# Altium integrated library NSC LDO.IntLib: 1229 symbols (part 24 of 28)
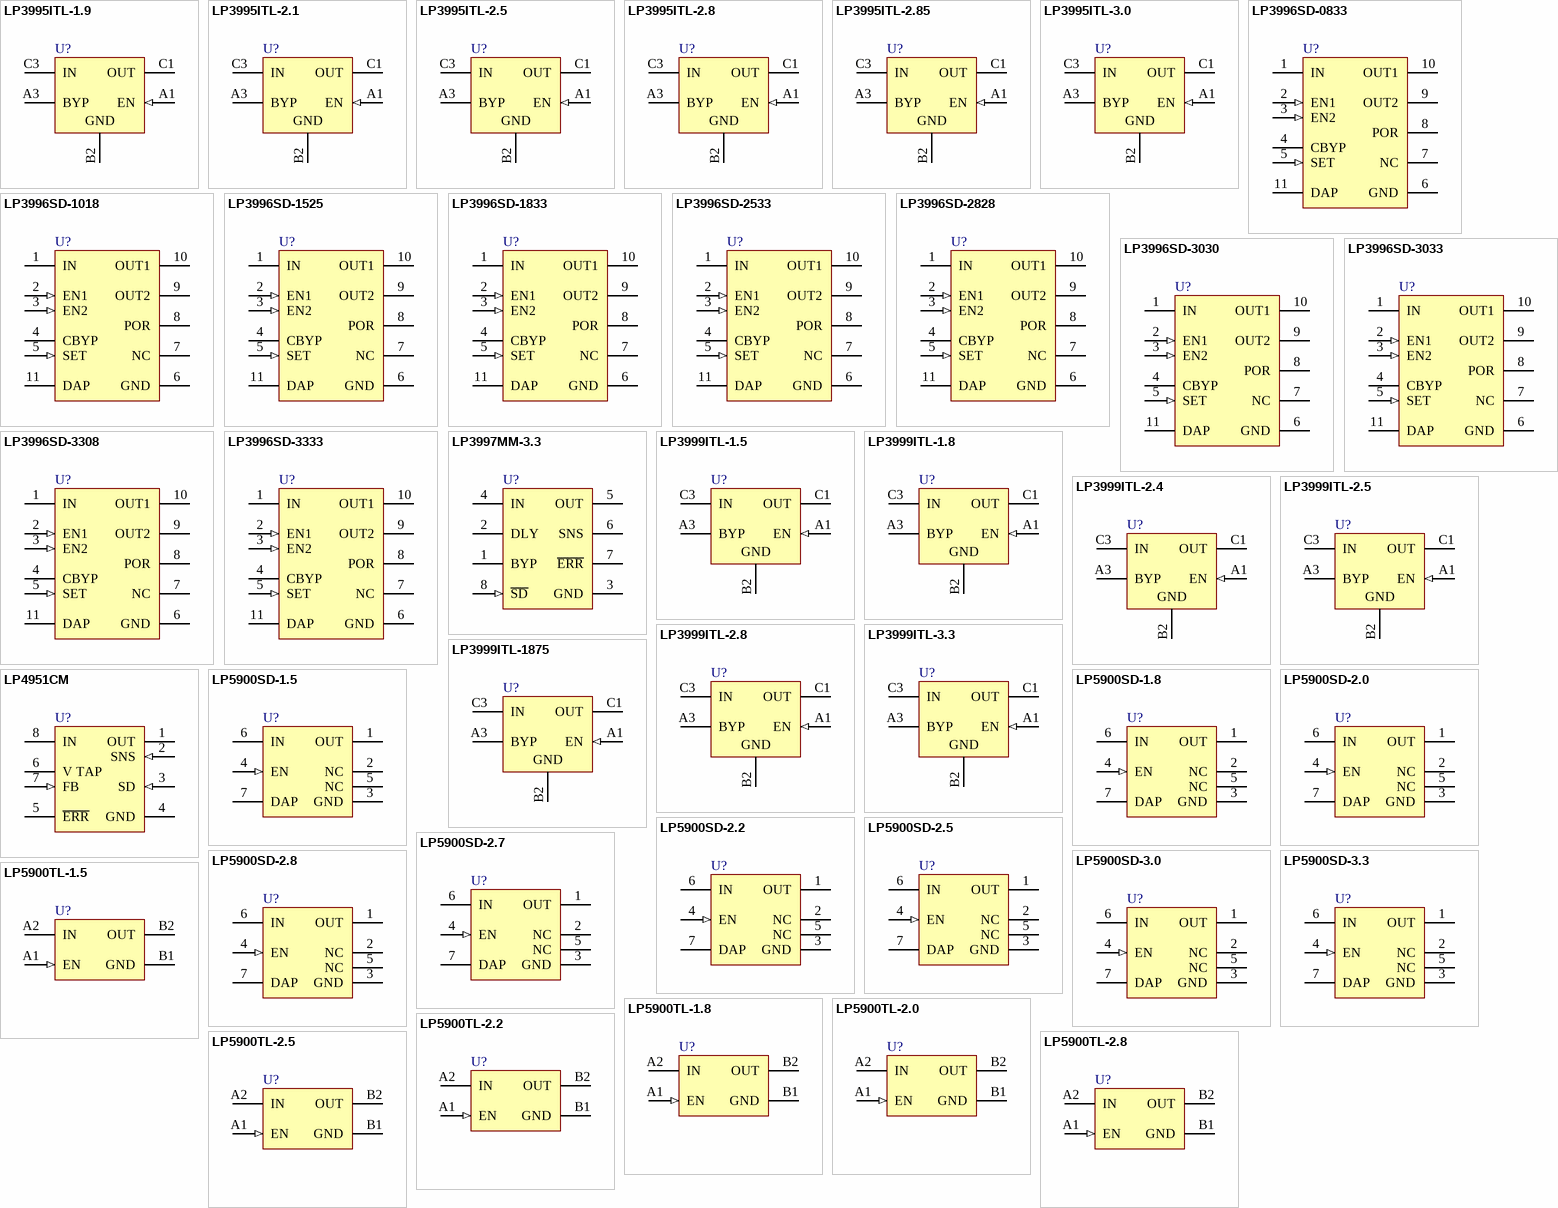
[diagram p54: symbols LP3995ITL-1.9 to LP5900TL-2.8]

## LP5900SD-3.3
designator U?
Ultra Low Noise, 150mA Linear Regulator for RF/Analog Circuits Requires No Bypass Capacitor; PartNumber: LP5900SD-3.3; Manufacturer: National Semiconductor; CompType: LDO IC; PackageTopMarking: XTT*L16; PowerWise: N; Published: 4-Dec-2008; DatasheetVersion: Jun-2008; PackageVersion: revA, Nov-2003; PackageReference: SDB06A; Publisher: Altium Limited; PackageDescription: LLP, Plastic, Dual, 2.2 x 2.5 x 0.8mm Body, 6 Lead, 0.65mm Pitch, No Pullback; RoHS: Y; PinCount: 6; DigiKeyPartNumber: LP5900SD-3.3CT-ND; ComponentLink1Description: LP5900 Datasheet; ComponentLink1URL: http://www.national.com/ds/LP/LP5900.pdf; ComponentLink2Description: LP5900 Web Page; ComponentLink2URL: http://www.national.com/pf/LP/LP5900.html; ComponentLink3Description: SDB06A Package Page; ComponentLink3URL: http://www.national.com/packaging/folders/sdb06a.html
footprint SDB06A (SON, 6-Leads, Body 2.2x2.5mm, Pitch 0.65mm, NSC Recommended (SC-70 Land))
pins: 1 OUT (power), 2 NC, 3 GND (power), 4 EN (in), 5 NC, 6 IN (power), 7 DAP (power)

## LP5900TL-1.5
designator U?
Ultra Low Noise, 150mA Linear Regulator for RF/Analog Circuits Requires No Bypass Capacitor; PartNumber: LP5900TL-1.5; Manufacturer: National Semiconductor; CompType: LDO IC; PackageTopMarking: X*I; Published: 4-Dec-2008; DatasheetVersion: Jun-2008; PackageVersion: revD, Mar-2005; PackageReference: TLA04BCA; Publisher: Altium Limited; PackageDescription: Thin Micro SMD, 4 Bump (Large), 0.5mm Pitch; RoHS: Y; PinCount: 4; DigiKeyPartNumber: LP5900TL-1.5CT-ND; Code_JEDEC: MO-211-BA; ComponentLink1Description: LP5900 Datasheet; ComponentLink1URL: http://www.national.com/ds/LP/LP5900.pdf; ComponentLink2Description: LP5900 Web Page; ComponentLink2URL: http://www.national.com/pf/LP/LP5900.html; ComponentLink3Description: TLA04BCA Package Page; ComponentLink3URL: http://www.national.com/packaging/folders/tla04bca.html
footprint TLA04BCA (Micro SMD, 4-Leads, Body 1.07x1.04mm, Pitch 0.5mm, NSC Recommended)
pins: A1 EN (in), A2 IN (power), B1 GND (power), B2 OUT (power)

## LP5900TL-1.8
designator U?
Ultra Low Noise, 150mA Linear Regulator for RF/Analog Circuits Requires No Bypass Capacitor; PartNumber: LP5900TL-1.8; Manufacturer: National Semiconductor; CompType: LDO IC; PackageTopMarking: X*I; Published: 4-Dec-2008; DatasheetVersion: Jun-2008; PackageVersion: revD, Mar-2005; PackageReference: TLA04BCA; Publisher: Altium Limited; PackageDescription: Thin Micro SMD, 4 Bump (Large), 0.5mm Pitch; RoHS: Y; PinCount: 4; DigiKeyPartNumber: LP5900TL-1.8CT-ND; Code_JEDEC: MO-211-BA; ComponentLink1Description: LP5900 Datasheet; ComponentLink1URL: http://www.national.com/ds/LP/LP5900.pdf; ComponentLink2Description: LP5900 Web Page; ComponentLink2URL: http://www.national.com/pf/LP/LP5900.html; ComponentLink3Description: TLA04BCA Package Page; ComponentLink3URL: http://www.national.com/packaging/folders/tla04bca.html
footprint TLA04BCA (Micro SMD, 4-Leads, Body 1.07x1.04mm, Pitch 0.5mm, NSC Recommended)
pins: A1 EN (in), A2 IN (power), B1 GND (power), B2 OUT (power)

## LP5900TL-2.0
designator U?
Ultra Low Noise, 150mA Linear Regulator for RF/Analog Circuits Requires No Bypass Capacitor; PartNumber: LP5900TL-2.0; Manufacturer: National Semiconductor; CompType: LDO IC; PackageTopMarking: X*I; Published: 4-Dec-2008; DatasheetVersion: Jun-2008; PackageVersion: revD, Mar-2005; PackageReference: TLA04BCA; Publisher: Altium Limited; PackageDescription: Thin Micro SMD, 4 Bump (Large), 0.5mm Pitch; RoHS: Y; PinCount: 4; DigiKeyPartNumber: LP5900TL-2.0CT-ND; Code_JEDEC: MO-211-BA; ComponentLink1Description: LP5900 Datasheet; ComponentLink1URL: http://www.national.com/ds/LP/LP5900.pdf; ComponentLink2Description: LP5900 Web Page; ComponentLink2URL: http://www.national.com/pf/LP/LP5900.html; ComponentLink3Description: TLA04BCA Package Page; ComponentLink3URL: http://www.national.com/packaging/folders/tla04bca.html
footprint TLA04BCA (Micro SMD, 4-Leads, Body 1.07x1.04mm, Pitch 0.5mm, NSC Recommended)
pins: A1 EN (in), A2 IN (power), B1 GND (power), B2 OUT (power)

## LP5900TL-2.2
designator U?
Ultra Low Noise, 150mA Linear Regulator for RF/Analog Circuits Requires No Bypass Capacitor; PartNumber: LP5900TL-2.2; Manufacturer: National Semiconductor; CompType: LDO IC; PackageTopMarking: X*I; Published: 4-Dec-2008; DatasheetVersion: Jun-2008; PackageVersion: revD, Mar-2005; PackageReference: TLA04BCA; Publisher: Altium Limited; PackageDescription: Thin Micro SMD, 4 Bump (Large), 0.5mm Pitch; RoHS: Y; PinCount: 4; DigiKeyPartNumber: LP5900TL-2.2CT-ND; Code_JEDEC: MO-211-BA; ComponentLink1Description: LP5900 Datasheet; ComponentLink1URL: http://www.national.com/ds/LP/LP5900.pdf; ComponentLink2Description: LP5900 Web Page; ComponentLink2URL: http://www.national.com/pf/LP/LP5900.html; ComponentLink3Description: TLA04BCA Package Page; ComponentLink3URL: http://www.national.com/packaging/folders/tla04bca.html
footprint TLA04BCA (Micro SMD, 4-Leads, Body 1.07x1.04mm, Pitch 0.5mm, NSC Recommended)
pins: A1 EN (in), A2 IN (power), B1 GND (power), B2 OUT (power)

## LP5900TL-2.5
designator U?
Ultra Low Noise, 150mA Linear Regulator for RF/Analog Circuits Requires No Bypass Capacitor; PartNumber: LP5900TL-2.5; Manufacturer: National Semiconductor; CompType: LDO IC; PackageTopMarking: X*I; Published: 4-Dec-2008; DatasheetVersion: Jun-2008; PackageVersion: revD, Mar-2005; PackageReference: TLA04BCA; Publisher: Altium Limited; PackageDescription: Thin Micro SMD, 4 Bump (Large), 0.5mm Pitch; RoHS: Y; PinCount: 4; DigiKeyPartNumber: LP5900TL-2.5CT-ND; Code_JEDEC: MO-211-BA; ComponentLink1Description: LP5900 Datasheet; ComponentLink1URL: http://www.national.com/ds/LP/LP5900.pdf; ComponentLink2Description: LP5900 Web Page; ComponentLink2URL: http://www.national.com/pf/LP/LP5900.html; ComponentLink3Description: TLA04BCA Package Page; ComponentLink3URL: http://www.national.com/packaging/folders/tla04bca.html
footprint TLA04BCA (Micro SMD, 4-Leads, Body 1.07x1.04mm, Pitch 0.5mm, NSC Recommended)
pins: A1 EN (in), A2 IN (power), B1 GND (power), B2 OUT (power)

## LP5900TL-2.8
designator U?
Ultra Low Noise, 150mA Linear Regulator for RF/Analog Circuits Requires No Bypass Capacitor; PartNumber: LP5900TL-2.8; Manufacturer: National Semiconductor; CompType: LDO IC; PackageTopMarking: X*I; Published: 4-Dec-2008; DatasheetVersion: Jun-2008; PackageVersion: revD, Mar-2005; PackageReference: TLA04BCA; Publisher: Altium Limited; PackageDescription: Thin Micro SMD, 4 Bump (Large), 0.5mm Pitch; RoHS: Y; PinCount: 4; DigiKeyPartNumber: LP5900TL-2.8CT-ND; Code_JEDEC: MO-211-BA; ComponentLink1Description: LP5900 Datasheet; ComponentLink1URL: http://www.national.com/ds/LP/LP5900.pdf; ComponentLink2Description: LP5900 Web Page; ComponentLink2URL: http://www.national.com/pf/LP/LP5900.html; ComponentLink3Description: TLA04BCA Package Page; ComponentLink3URL: http://www.national.com/packaging/folders/tla04bca.html
footprint TLA04BCA (Micro SMD, 4-Leads, Body 1.07x1.04mm, Pitch 0.5mm, NSC Recommended)
pins: A1 EN (in), A2 IN (power), B1 GND (power), B2 OUT (power)

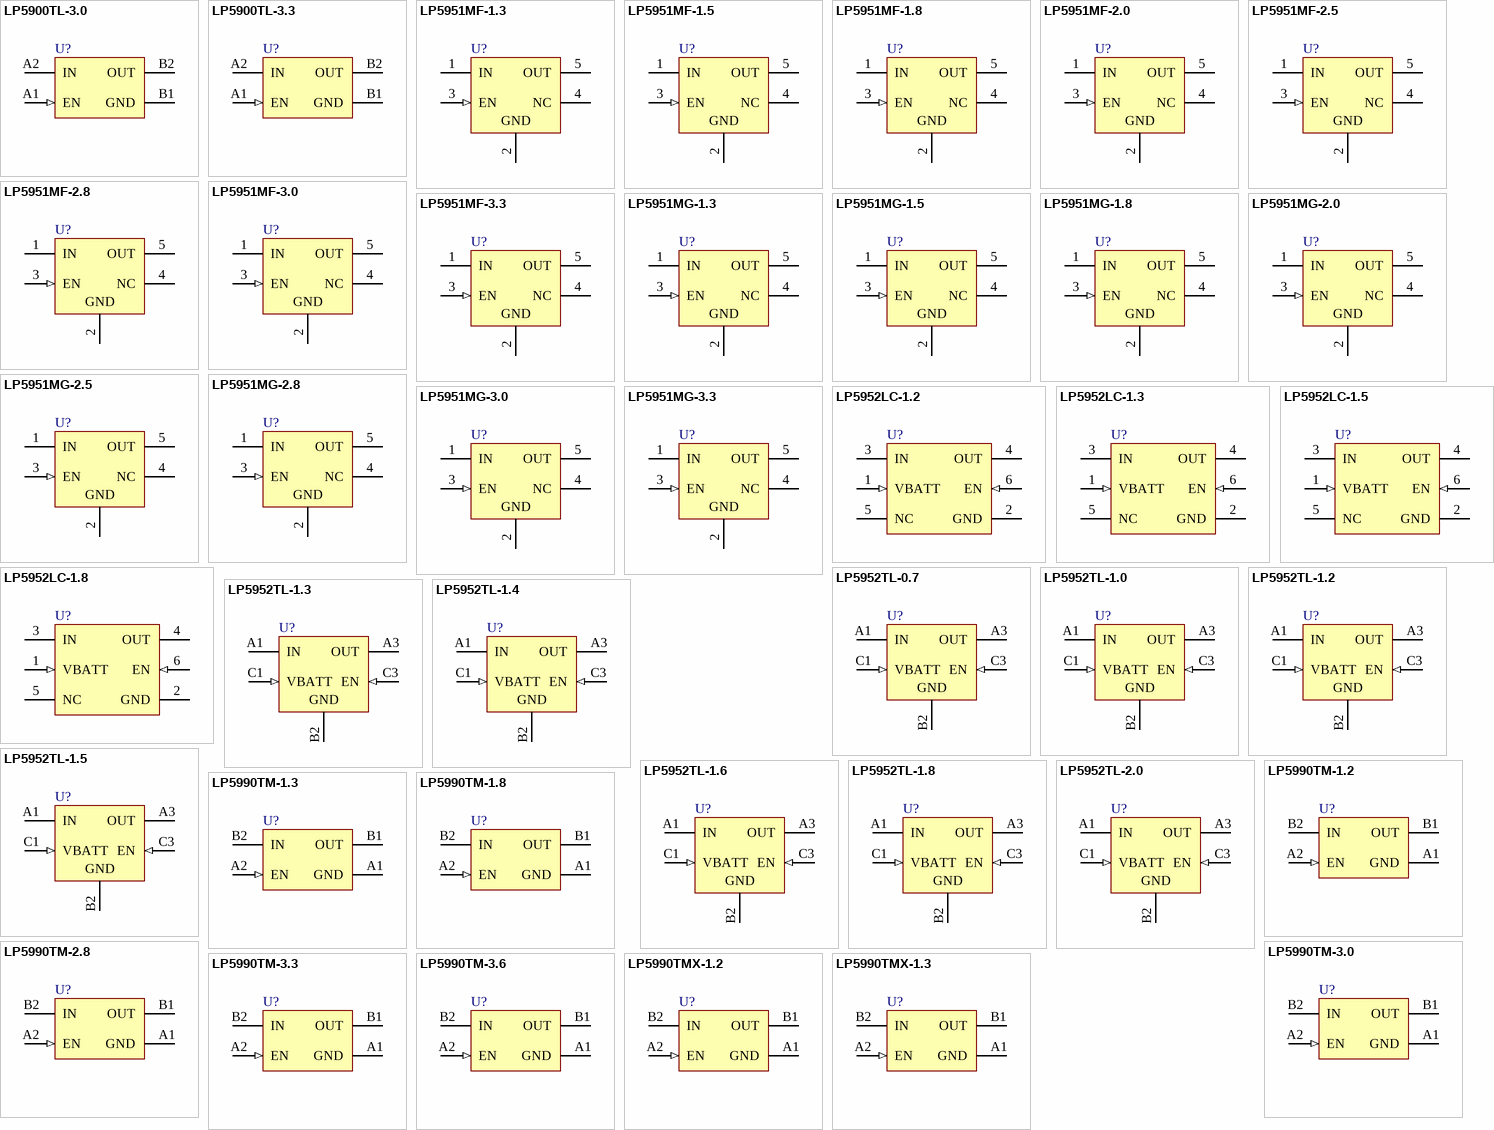
[diagram p26: symbols LP5900TL-3.0 to LP5990TMX-1.3]

## LP5900TL-3.0
designator U?
Ultra Low Noise, 150mA Linear Regulator for RF/Analog Circuits Requires No Bypass Capacitor; PartNumber: LP5900TL-3.0; Manufacturer: National Semiconductor; CompType: LDO IC; PackageTopMarking: X*I; Published: 4-Dec-2008; DatasheetVersion: Jun-2008; PackageVersion: revD, Mar-2005; PackageReference: TLA04BCA; Publisher: Altium Limited; PackageDescription: Thin Micro SMD, 4 Bump (Large), 0.5mm Pitch; RoHS: Y; PinCount: 4; DigiKeyPartNumber: LP5900TL-3.0CT-ND; Code_JEDEC: MO-211-BA; ComponentLink1Description: LP5900 Datasheet; ComponentLink1URL: http://www.national.com/ds/LP/LP5900.pdf; ComponentLink2Description: LP5900 Web Page; ComponentLink2URL: http://www.national.com/pf/LP/LP5900.html; ComponentLink3Description: TLA04BCA Package Page; ComponentLink3URL: http://www.national.com/packaging/folders/tla04bca.html
footprint TLA04BCA (Micro SMD, 4-Leads, Body 1.07x1.04mm, Pitch 0.5mm, NSC Recommended)
pins: A1 EN (in), A2 IN (power), B1 GND (power), B2 OUT (power)

## LP5900TL-3.3
designator U?
Ultra Low Noise, 150mA Linear Regulator for RF/Analog Circuits Requires No Bypass Capacitor; PartNumber: LP5900TL-3.3; Manufacturer: National Semiconductor; CompType: LDO IC; PackageTopMarking: X*I; Published: 4-Dec-2008; DatasheetVersion: Jun-2008; PackageVersion: revD, Mar-2005; PackageReference: TLA04BCA; Publisher: Altium Limited; PackageDescription: Thin Micro SMD, 4 Bump (Large), 0.5mm Pitch; RoHS: Y; PinCount: 4; DigiKeyPartNumber: LP5900TL-3.3CT-ND; Code_JEDEC: MO-211-BA; ComponentLink1Description: LP5900 Datasheet; ComponentLink1URL: http://www.national.com/ds/LP/LP5900.pdf; ComponentLink2Description: LP5900 Web Page; ComponentLink2URL: http://www.national.com/pf/LP/LP5900.html; ComponentLink3Description: TLA04BCA Package Page; ComponentLink3URL: http://www.national.com/packaging/folders/tla04bca.html
footprint TLA04BCA (Micro SMD, 4-Leads, Body 1.07x1.04mm, Pitch 0.5mm, NSC Recommended)
pins: A1 EN (in), A2 IN (power), B1 GND (power), B2 OUT (power)

## LP5951MF-1.3
designator U?
Micropower, 150mA Low-Dropout CMOS Voltage Regulator; PartNumber: LP5951MF-1.3; Manufacturer: National Semiconductor; CompType: LDO IC; PackageTopMarking: LKRB*XTT; PowerWise: N; Published: 4-Dec-2008; DatasheetVersion: May-2007; PackageVersion: revD, Aug-2008; PackageReference: MF05A; Publisher: Altium Limited; PackageDescription: Molded SOT-23, .115 x .063 x .040 in Body, 5 Lead, .0375 in Pitch; RoHS: Y; PinCount: 5; DigiKeyPartNumber: LP5951MF-1.3CT-ND; ComponentLink1Description: LP5951 Datasheet; ComponentLink1URL: http://www.national.com/ds/LP/LP5951.pdf; ComponentLink2Description: LP5951 Web Page; ComponentLink2URL: http://www.national.com/pf/LP/LP5951.html; ComponentLink3Description: MF05A Package Page; ComponentLink3URL: http://www.national.com/packaging/folders/mf05a.html
footprint MF05A_N (SOT23, 5-Leads, Body 2.9x1.6mm, Pitch 0.95mm, Lead Span 2.8mm, IPC Medium Density)
footprint MF05A_L (SOT23, 5-Leads, Body 2.9x1.6mm, Pitch 0.95mm, Lead Span 2.8mm, IPC High Density)
footprint MF05A_M (SOT23, 5-Leads, Body 2.9x1.6mm, Pitch 0.95mm, Lead Span 2.8mm, IPC Low Density)
pins: 1 IN (power), 2 GND (power), 3 EN (in), 4 NC, 5 OUT (power)

## LP5951MF-1.5
designator U?
Micropower, 150mA Low-Dropout CMOS Voltage Regulator; PartNumber: LP5951MF-1.5; Manufacturer: National Semiconductor; CompType: LDO IC; PackageTopMarking: LKAB*XTT; PowerWise: N; Published: 4-Dec-2008; DatasheetVersion: May-2007; PackageVersion: revD, Aug-2008; PackageReference: MF05A; Publisher: Altium Limited; PackageDescription: Molded SOT-23, .115 x .063 x .040 in Body, 5 Lead, .0375 in Pitch; RoHS: Y; PinCount: 5; DigiKeyPartNumber: LP5951MF-1.5CT-ND; ComponentLink1Description: LP5951 Datasheet; ComponentLink1URL: http://www.national.com/ds/LP/LP5951.pdf; ComponentLink2Description: LP5951 Web Page; ComponentLink2URL: http://www.national.com/pf/LP/LP5951.html; ComponentLink3Description: MF05A Package Page; ComponentLink3URL: http://www.national.com/packaging/folders/mf05a.html
footprint MF05A_N (SOT23, 5-Leads, Body 2.9x1.6mm, Pitch 0.95mm, Lead Span 2.8mm, IPC Medium Density)
footprint MF05A_L (SOT23, 5-Leads, Body 2.9x1.6mm, Pitch 0.95mm, Lead Span 2.8mm, IPC High Density)
footprint MF05A_M (SOT23, 5-Leads, Body 2.9x1.6mm, Pitch 0.95mm, Lead Span 2.8mm, IPC Low Density)
pins: 1 IN (power), 2 GND (power), 3 EN (in), 4 NC, 5 OUT (power)

## LP5951MF-1.8
designator U?
Micropower, 150mA Low-Dropout CMOS Voltage Regulator; PartNumber: LP5951MF-1.8; Manufacturer: National Semiconductor; CompType: LDO IC; PackageTopMarking: LKBB*XTT; PowerWise: N; Published: 4-Dec-2008; DatasheetVersion: May-2007; PackageVersion: revD, Aug-2008; PackageReference: MF05A; Publisher: Altium Limited; PackageDescription: Molded SOT-23, .115 x .063 x .040 in Body, 5 Lead, .0375 in Pitch; RoHS: Y; PinCount: 5; DigiKeyPartNumber: LP5951MF-1.8CT-ND; ComponentLink1Description: LP5951 Datasheet; ComponentLink1URL: http://www.national.com/ds/LP/LP5951.pdf; ComponentLink2Description: LP5951 Web Page; ComponentLink2URL: http://www.national.com/pf/LP/LP5951.html; ComponentLink3Description: MF05A Package Page; ComponentLink3URL: http://www.national.com/packaging/folders/mf05a.html
footprint MF05A_N (SOT23, 5-Leads, Body 2.9x1.6mm, Pitch 0.95mm, Lead Span 2.8mm, IPC Medium Density)
footprint MF05A_L (SOT23, 5-Leads, Body 2.9x1.6mm, Pitch 0.95mm, Lead Span 2.8mm, IPC High Density)
footprint MF05A_M (SOT23, 5-Leads, Body 2.9x1.6mm, Pitch 0.95mm, Lead Span 2.8mm, IPC Low Density)
pins: 1 IN (power), 2 GND (power), 3 EN (in), 4 NC, 5 OUT (power)

## LP5951MF-2.0
designator U?
Micropower, 150mA Low-Dropout CMOS Voltage Regulator; PartNumber: LP5951MF-2.0; Manufacturer: National Semiconductor; CompType: LDO IC; PackageTopMarking: LKCB*XTT; PowerWise: N; Published: 4-Dec-2008; DatasheetVersion: May-2007; PackageVersion: revD, Aug-2008; PackageReference: MF05A; Publisher: Altium Limited; PackageDescription: Molded SOT-23, .115 x .063 x .040 in Body, 5 Lead, .0375 in Pitch; RoHS: Y; PinCount: 5; DigiKeyPartNumber: LP5951MF-2.0CT-ND; ComponentLink1Description: LP5951 Datasheet; ComponentLink1URL: http://www.national.com/ds/LP/LP5951.pdf; ComponentLink2Description: LP5951 Web Page; ComponentLink2URL: http://www.national.com/pf/LP/LP5951.html; ComponentLink3Description: MF05A Package Page; ComponentLink3URL: http://www.national.com/packaging/folders/mf05a.html
footprint MF05A_N (SOT23, 5-Leads, Body 2.9x1.6mm, Pitch 0.95mm, Lead Span 2.8mm, IPC Medium Density)
footprint MF05A_L (SOT23, 5-Leads, Body 2.9x1.6mm, Pitch 0.95mm, Lead Span 2.8mm, IPC High Density)
footprint MF05A_M (SOT23, 5-Leads, Body 2.9x1.6mm, Pitch 0.95mm, Lead Span 2.8mm, IPC Low Density)
pins: 1 IN (power), 2 GND (power), 3 EN (in), 4 NC, 5 OUT (power)

## LP5951MF-2.5
designator U?
Micropower, 150mA Low-Dropout CMOS Voltage Regulator; PartNumber: LP5951MF-2.5; Manufacturer: National Semiconductor; CompType: LDO IC; PackageTopMarking: LKEB*XTT; PowerWise: N; Published: 4-Dec-2008; DatasheetVersion: May-2007; PackageVersion: revD, Aug-2008; PackageReference: MF05A; Publisher: Altium Limited; PackageDescription: Molded SOT-23, .115 x .063 x .040 in Body, 5 Lead, .0375 in Pitch; RoHS: Y; PinCount: 5; DigiKeyPartNumber: LP5951MF-2.5CT-ND; ComponentLink1Description: LP5951 Datasheet; ComponentLink1URL: http://www.national.com/ds/LP/LP5951.pdf; ComponentLink2Description: LP5951 Web Page; ComponentLink2URL: http://www.national.com/pf/LP/LP5951.html; ComponentLink3Description: MF05A Package Page; ComponentLink3URL: http://www.national.com/packaging/folders/mf05a.html
footprint MF05A_N (SOT23, 5-Leads, Body 2.9x1.6mm, Pitch 0.95mm, Lead Span 2.8mm, IPC Medium Density)
footprint MF05A_L (SOT23, 5-Leads, Body 2.9x1.6mm, Pitch 0.95mm, Lead Span 2.8mm, IPC High Density)
footprint MF05A_M (SOT23, 5-Leads, Body 2.9x1.6mm, Pitch 0.95mm, Lead Span 2.8mm, IPC Low Density)
pins: 1 IN (power), 2 GND (power), 3 EN (in), 4 NC, 5 OUT (power)

## LP5951MF-2.8
designator U?
Micropower, 150mA Low-Dropout CMOS Voltage Regulator; PartNumber: LP5951MF-2.8; Manufacturer: National Semiconductor; CompType: LDO IC; PackageTopMarking: LKFB*XTT; PowerWise: N; Published: 4-Dec-2008; DatasheetVersion: May-2007; PackageVersion: revD, Aug-2008; PackageReference: MF05A; Publisher: Altium Limited; PackageDescription: Molded SOT-23, .115 x .063 x .040 in Body, 5 Lead, .0375 in Pitch; RoHS: Y; PinCount: 5; DigiKeyPartNumber: LP5951MF-2.8CT-ND; ComponentLink1Description: LP5951 Datasheet; ComponentLink1URL: http://www.national.com/ds/LP/LP5951.pdf; ComponentLink2Description: LP5951 Web Page; ComponentLink2URL: http://www.national.com/pf/LP/LP5951.html; ComponentLink3Description: MF05A Package Page; ComponentLink3URL: http://www.national.com/packaging/folders/mf05a.html
footprint MF05A_N (SOT23, 5-Leads, Body 2.9x1.6mm, Pitch 0.95mm, Lead Span 2.8mm, IPC Medium Density)
footprint MF05A_L (SOT23, 5-Leads, Body 2.9x1.6mm, Pitch 0.95mm, Lead Span 2.8mm, IPC High Density)
footprint MF05A_M (SOT23, 5-Leads, Body 2.9x1.6mm, Pitch 0.95mm, Lead Span 2.8mm, IPC Low Density)
pins: 1 IN (power), 2 GND (power), 3 EN (in), 4 NC, 5 OUT (power)

## LP5951MF-3.0
designator U?
Micropower, 150mA Low-Dropout CMOS Voltage Regulator; PartNumber: LP5951MF-3.0; Manufacturer: National Semiconductor; CompType: LDO IC; PackageTopMarking: LKGB*XTT; PowerWise: N; Published: 4-Dec-2008; DatasheetVersion: May-2007; PackageVersion: revD, Aug-2008; PackageReference: MF05A; Publisher: Altium Limited; PackageDescription: Molded SOT-23, .115 x .063 x .040 in Body, 5 Lead, .0375 in Pitch; RoHS: Y; PinCount: 5; DigiKeyPartNumber: LP5951MF-3.0CT-ND; ComponentLink1Description: LP5951 Datasheet; ComponentLink1URL: http://www.national.com/ds/LP/LP5951.pdf; ComponentLink2Description: LP5951 Web Page; ComponentLink2URL: http://www.national.com/pf/LP/LP5951.html; ComponentLink3Description: MF05A Package Page; ComponentLink3URL: http://www.national.com/packaging/folders/mf05a.html
footprint MF05A_N (SOT23, 5-Leads, Body 2.9x1.6mm, Pitch 0.95mm, Lead Span 2.8mm, IPC Medium Density)
footprint MF05A_L (SOT23, 5-Leads, Body 2.9x1.6mm, Pitch 0.95mm, Lead Span 2.8mm, IPC High Density)
footprint MF05A_M (SOT23, 5-Leads, Body 2.9x1.6mm, Pitch 0.95mm, Lead Span 2.8mm, IPC Low Density)
pins: 1 IN (power), 2 GND (power), 3 EN (in), 4 NC, 5 OUT (power)

## LP5951MF-3.3
designator U?
Micropower, 150mA Low-Dropout CMOS Voltage Regulator; PartNumber: LP5951MF-3.3; Manufacturer: National Semiconductor; CompType: LDO IC; PackageTopMarking: LKHB*XTT; PowerWise: N; Published: 4-Dec-2008; DatasheetVersion: May-2007; PackageVersion: revD, Aug-2008; PackageReference: MF05A; Publisher: Altium Limited; PackageDescription: Molded SOT-23, .115 x .063 x .040 in Body, 5 Lead, .0375 in Pitch; RoHS: Y; PinCount: 5; DigiKeyPartNumber: LP5951MF-3.3CT-ND; ComponentLink1Description: LP5951 Datasheet; ComponentLink1URL: http://www.national.com/ds/LP/LP5951.pdf; ComponentLink2Description: LP5951 Web Page; ComponentLink2URL: http://www.national.com/pf/LP/LP5951.html; ComponentLink3Description: MF05A Package Page; ComponentLink3URL: http://www.national.com/packaging/folders/mf05a.html
footprint MF05A_N (SOT23, 5-Leads, Body 2.9x1.6mm, Pitch 0.95mm, Lead Span 2.8mm, IPC Medium Density)
footprint MF05A_L (SOT23, 5-Leads, Body 2.9x1.6mm, Pitch 0.95mm, Lead Span 2.8mm, IPC High Density)
footprint MF05A_M (SOT23, 5-Leads, Body 2.9x1.6mm, Pitch 0.95mm, Lead Span 2.8mm, IPC Low Density)
pins: 1 IN (power), 2 GND (power), 3 EN (in), 4 NC, 5 OUT (power)

## LP5951MG-1.3
designator U?
Micropower, 150mA Low-Dropout CMOS Voltage Regulator; PartNumber: LP5951MG-1.3; Manufacturer: National Semiconductor; CompType: LDO IC; PackageTopMarking: L23*XTT; PowerWise: N; Published: 4-Dec-2008; DatasheetVersion: May-2007; PackageVersion: revD, Jun-2007; PackageReference: MAA05A; Publisher: Altium Limited; PackageDescription: Molded SC-70, 2 x 1.25 x .9mm, 5 Lead, 0.65mm Pitch; RoHS: Y; PinCount: 5; DigiKeyPartNumber: LP5951MG-1.3CT-ND; Code_JEITA: SC-88A; Code_JEDEC: MO-203-AA; Code_IPC: SOT353-5; ComponentLink1Description: LP5951 Datasheet; ComponentLink1URL: http://www.national.com/ds/LP/LP5951.pdf; ComponentLink2Description: LP5951 Web Page; ComponentLink2URL: http://www.national.com/pf/LP/LP5951.html; ComponentLink3Description: MAA05A Package Page; ComponentLink3URL: http://www.national.com/packaging/folders/maa05a.html
footprint MAA05A_N (SOT353, 5-Leads, Body 2x1.3mm, Pitch 0.65mm, Lead Span 2.1mm, IPC Medium Density)
footprint MAA05A_L (SOT353, 5-Leads, Body 2x1.3mm, Pitch 0.65mm, Lead Span 2.1mm, IPC High Density)
footprint MAA05A_M (SOT353, 5-Leads, Body 2x1.3mm, Pitch 0.65mm, Lead Span 2.1mm, IPC Low Density)
pins: 1 IN (power), 2 GND (power), 3 EN (in), 4 NC, 5 OUT (power)

## LP5951MG-1.5
designator U?
Micropower, 150mA Low-Dropout CMOS Voltage Regulator; PartNumber: LP5951MG-1.5; Manufacturer: National Semiconductor; CompType: LDO IC; PackageTopMarking: L2B*XTT; PowerWise: N; Published: 4-Dec-2008; DatasheetVersion: May-2007; PackageVersion: revD, Jun-2007; PackageReference: MAA05A; Publisher: Altium Limited; PackageDescription: Molded SC-70, 2 x 1.25 x .9mm, 5 Lead, 0.65mm Pitch; RoHS: Y; PinCount: 5; DigiKeyPartNumber: LP5951MG-1.5CT-ND; Code_JEITA: SC-88A; Code_JEDEC: MO-203-AA; Code_IPC: SOT353-5; ComponentLink1Description: LP5951 Datasheet; ComponentLink1URL: http://www.national.com/ds/LP/LP5951.pdf; ComponentLink2Description: LP5951 Web Page; ComponentLink2URL: http://www.national.com/pf/LP/LP5951.html; ComponentLink3Description: MAA05A Package Page; ComponentLink3URL: http://www.national.com/packaging/folders/maa05a.html
footprint MAA05A_N (SOT353, 5-Leads, Body 2x1.3mm, Pitch 0.65mm, Lead Span 2.1mm, IPC Medium Density)
footprint MAA05A_L (SOT353, 5-Leads, Body 2x1.3mm, Pitch 0.65mm, Lead Span 2.1mm, IPC High Density)
footprint MAA05A_M (SOT353, 5-Leads, Body 2x1.3mm, Pitch 0.65mm, Lead Span 2.1mm, IPC Low Density)
pins: 1 IN (power), 2 GND (power), 3 EN (in), 4 NC, 5 OUT (power)

## LP5951MG-1.8
designator U?
Micropower, 150mA Low-Dropout CMOS Voltage Regulator; PartNumber: LP5951MG-1.8; Manufacturer: National Semiconductor; CompType: LDO IC; PackageTopMarking: L3B*XTT; PowerWise: N; Published: 4-Dec-2008; DatasheetVersion: May-2007; PackageVersion: revD, Jun-2007; PackageReference: MAA05A; Publisher: Altium Limited; PackageDescription: Molded SC-70, 2 x 1.25 x .9mm, 5 Lead, 0.65mm Pitch; RoHS: O; PinCount: 5; DigiKeyPartNumber: LP5951MG-1.8CT-ND; Code_JEITA: SC-88A; Code_JEDEC: MO-203-AA; Code_IPC: SOT353-5; ComponentLink1Description: LP5951 Datasheet; ComponentLink1URL: http://www.national.com/ds/LP/LP5951.pdf; ComponentLink2Description: LP5951 Web Page; ComponentLink2URL: http://www.national.com/pf/LP/LP5951.html; ComponentLink3Description: MAA05A Package Page; ComponentLink3URL: http://www.national.com/packaging/folders/maa05a.html
footprint MAA05A_N (SOT353, 5-Leads, Body 2x1.3mm, Pitch 0.65mm, Lead Span 2.1mm, IPC Medium Density)
footprint MAA05A_L (SOT353, 5-Leads, Body 2x1.3mm, Pitch 0.65mm, Lead Span 2.1mm, IPC High Density)
footprint MAA05A_M (SOT353, 5-Leads, Body 2x1.3mm, Pitch 0.65mm, Lead Span 2.1mm, IPC Low Density)
pins: 1 IN (power), 2 GND (power), 3 EN (in), 4 NC, 5 OUT (power)

## LP5951MG-2.0
designator U?
Micropower, 150mA Low-Dropout CMOS Voltage Regulator; PartNumber: LP5951MG-2.0; Manufacturer: National Semiconductor; CompType: LDO IC; PackageTopMarking: L4B*XTT; PowerWise: N; Published: 4-Dec-2008; DatasheetVersion: May-2007; PackageVersion: revD, Jun-2007; PackageReference: MAA05A; Publisher: Altium Limited; PackageDescription: Molded SC-70, 2 x 1.25 x .9mm, 5 Lead, 0.65mm Pitch; RoHS: Y; PinCount: 5; DigiKeyPartNumber: LP5951MG-2.0CT-ND; Code_JEITA: SC-88A; Code_JEDEC: MO-203-AA; Code_IPC: SOT353-5; ComponentLink1Description: LP5951 Datasheet; ComponentLink1URL: http://www.national.com/ds/LP/LP5951.pdf; ComponentLink2Description: LP5951 Web Page; ComponentLink2URL: http://www.national.com/pf/LP/LP5951.html; ComponentLink3Description: MAA05A Package Page; ComponentLink3URL: http://www.national.com/packaging/folders/maa05a.html
footprint MAA05A_N (SOT353, 5-Leads, Body 2x1.3mm, Pitch 0.65mm, Lead Span 2.1mm, IPC Medium Density)
footprint MAA05A_L (SOT353, 5-Leads, Body 2x1.3mm, Pitch 0.65mm, Lead Span 2.1mm, IPC High Density)
footprint MAA05A_M (SOT353, 5-Leads, Body 2x1.3mm, Pitch 0.65mm, Lead Span 2.1mm, IPC Low Density)
pins: 1 IN (power), 2 GND (power), 3 EN (in), 4 NC, 5 OUT (power)

## LP5951MG-2.5
designator U?
Micropower, 150mA Low-Dropout CMOS Voltage Regulator; PartNumber: LP5951MG-2.5; Manufacturer: National Semiconductor; CompType: LDO IC; PackageTopMarking: L5B*XTT; PowerWise: N; Published: 4-Dec-2008; DatasheetVersion: May-2007; PackageVersion: revD, Jun-2007; PackageReference: MAA05A; Publisher: Altium Limited; PackageDescription: Molded SC-70, 2 x 1.25 x .9mm, 5 Lead, 0.65mm Pitch; RoHS: O; PinCount: 5; DigiKeyPartNumber: LP5951MG-2.5CT-ND; Code_JEITA: SC-88A; Code_JEDEC: MO-203-AA; Code_IPC: SOT353-5; ComponentLink1Description: LP5951 Datasheet; ComponentLink1URL: http://www.national.com/ds/LP/LP5951.pdf; ComponentLink2Description: LP5951 Web Page; ComponentLink2URL: http://www.national.com/pf/LP/LP5951.html; ComponentLink3Description: MAA05A Package Page; ComponentLink3URL: http://www.national.com/packaging/folders/maa05a.html
footprint MAA05A_N (SOT353, 5-Leads, Body 2x1.3mm, Pitch 0.65mm, Lead Span 2.1mm, IPC Medium Density)
footprint MAA05A_L (SOT353, 5-Leads, Body 2x1.3mm, Pitch 0.65mm, Lead Span 2.1mm, IPC High Density)
footprint MAA05A_M (SOT353, 5-Leads, Body 2x1.3mm, Pitch 0.65mm, Lead Span 2.1mm, IPC Low Density)
pins: 1 IN (power), 2 GND (power), 3 EN (in), 4 NC, 5 OUT (power)

## LP5951MG-2.8
designator U?
Micropower, 150mA Low-Dropout CMOS Voltage Regulator; PartNumber: LP5951MG-2.8; Manufacturer: National Semiconductor; CompType: LDO IC; PackageTopMarking: L6B*XTT; PowerWise: N; Published: 4-Dec-2008; DatasheetVersion: May-2007; PackageVersion: revD, Jun-2007; PackageReference: MAA05A; Publisher: Altium Limited; PackageDescription: Molded SC-70, 2 x 1.25 x .9mm, 5 Lead, 0.65mm Pitch; RoHS: Y; PinCount: 5; DigiKeyPartNumber: LP5951MG-2.8CT-ND; Code_JEITA: SC-88A; Code_JEDEC: MO-203-AA; Code_IPC: SOT353-5; ComponentLink1Description: LP5951 Datasheet; ComponentLink1URL: http://www.national.com/ds/LP/LP5951.pdf; ComponentLink2Description: LP5951 Web Page; ComponentLink2URL: http://www.national.com/pf/LP/LP5951.html; ComponentLink3Description: MAA05A Package Page; ComponentLink3URL: http://www.national.com/packaging/folders/maa05a.html
footprint MAA05A_N (SOT353, 5-Leads, Body 2x1.3mm, Pitch 0.65mm, Lead Span 2.1mm, IPC Medium Density)
footprint MAA05A_L (SOT353, 5-Leads, Body 2x1.3mm, Pitch 0.65mm, Lead Span 2.1mm, IPC High Density)
footprint MAA05A_M (SOT353, 5-Leads, Body 2x1.3mm, Pitch 0.65mm, Lead Span 2.1mm, IPC Low Density)
pins: 1 IN (power), 2 GND (power), 3 EN (in), 4 NC, 5 OUT (power)

## LP5951MG-3.0
designator U?
Micropower, 150mA Low-Dropout CMOS Voltage Regulator; PartNumber: LP5951MG-3.0; Manufacturer: National Semiconductor; CompType: LDO IC; PackageTopMarking: L7B*XTT; PowerWise: N; Published: 4-Dec-2008; DatasheetVersion: May-2007; PackageVersion: revD, Jun-2007; PackageReference: MAA05A; Publisher: Altium Limited; PackageDescription: Molded SC-70, 2 x 1.25 x .9mm, 5 Lead, 0.65mm Pitch; RoHS: Y; PinCount: 5; DigiKeyPartNumber: LP5951MG-3.0CT-ND; Code_JEITA: SC-88A; Code_JEDEC: MO-203-AA; Code_IPC: SOT353-5; ComponentLink1Description: LP5951 Datasheet; ComponentLink1URL: http://www.national.com/ds/LP/LP5951.pdf; ComponentLink2Description: LP5951 Web Page; ComponentLink2URL: http://www.national.com/pf/LP/LP5951.html; ComponentLink3Description: MAA05A Package Page; ComponentLink3URL: http://www.national.com/packaging/folders/maa05a.html
footprint MAA05A_N (SOT353, 5-Leads, Body 2x1.3mm, Pitch 0.65mm, Lead Span 2.1mm, IPC Medium Density)
footprint MAA05A_L (SOT353, 5-Leads, Body 2x1.3mm, Pitch 0.65mm, Lead Span 2.1mm, IPC High Density)
footprint MAA05A_M (SOT353, 5-Leads, Body 2x1.3mm, Pitch 0.65mm, Lead Span 2.1mm, IPC Low Density)
pins: 1 IN (power), 2 GND (power), 3 EN (in), 4 NC, 5 OUT (power)

## LP5951MG-3.3
designator U?
Micropower, 150mA Low-Dropout CMOS Voltage Regulator; PartNumber: LP5951MG-3.3; Manufacturer: National Semiconductor; CompType: LDO IC; PackageTopMarking: LAB*XTT; PowerWise: N; Published: 4-Dec-2008; DatasheetVersion: May-2007; PackageVersion: revD, Jun-2007; PackageReference: MAA05A; Publisher: Altium Limited; PackageDescription: Molded SC-70, 2 x 1.25 x .9mm, 5 Lead, 0.65mm Pitch; RoHS: Y; PinCount: 5; DigiKeyPartNumber: LP5951MG-3.3CT-ND; Code_JEITA: SC-88A; Code_JEDEC: MO-203-AA; Code_IPC: SOT353-5; ComponentLink1Description: LP5951 Datasheet; ComponentLink1URL: http://www.national.com/ds/LP/LP5951.pdf; ComponentLink2Description: LP5951 Web Page; ComponentLink2URL: http://www.national.com/pf/LP/LP5951.html; ComponentLink3Description: MAA05A Package Page; ComponentLink3URL: http://www.national.com/packaging/folders/maa05a.html
footprint MAA05A_N (SOT353, 5-Leads, Body 2x1.3mm, Pitch 0.65mm, Lead Span 2.1mm, IPC Medium Density)
footprint MAA05A_L (SOT353, 5-Leads, Body 2x1.3mm, Pitch 0.65mm, Lead Span 2.1mm, IPC High Density)
footprint MAA05A_M (SOT353, 5-Leads, Body 2x1.3mm, Pitch 0.65mm, Lead Span 2.1mm, IPC Low Density)
pins: 1 IN (power), 2 GND (power), 3 EN (in), 4 NC, 5 OUT (power)

## LP5952LC-1.2
designator U?
350mA Dual Rail Linear Regulator; PartNumber: LP5952LC-1.2; Manufacturer: National Semiconductor; CompType: LDO IC; PackageTopMarking: XTT*L28; PowerWise: Y; Published: 4-Dec-2008; DatasheetVersion: Jun-2008; PackageVersion: revA, Oct-2006; PackageReference: LCA06B; Publisher: Altium Limited; PackageDescription: LLP, 2 x 2 x 0.6mm, 6 Lead, 0.5mm Pitch, No Pullback; RoHS: Y; PinCount: 6; DigiKeyPartNumber: LP5952LC-1.2-ND; ComponentLink1Description: LP5952 Datasheet; ComponentLink1URL: http://www.national.com/ds/LP/LP5952.pdf; ComponentLink2Description: LP5952 Web Page; ComponentLink2URL: http://www.national.com/pf/LP/LP5952.html; ComponentLink3Description: LCA06B Package Page; ComponentLink3URL: http://www.national.com/packaging/folders/lca06b.html
footprint LCA06B (SON, 6-Leads, Body 2x2mm, Pitch 0.5mm, NSC Recommended)
pins: 1 VBATT (in), 2 GND (power), 3 IN (power), 4 OUT (power), 5 NC, 6 EN (in)

## LP5952LC-1.3
designator U?
350mA Dual Rail Linear Regulator; PartNumber: LP5952LC-1.3; Manufacturer: National Semiconductor; CompType: LDO IC; PackageTopMarking: XTT*L43; PowerWise: Y; Published: 4-Dec-2008; DatasheetVersion: Jun-2008; PackageVersion: revA, Oct-2006; PackageReference: LCA06B; Publisher: Altium Limited; PackageDescription: LLP, 2 x 2 x 0.6mm, 6 Lead, 0.5mm Pitch, No Pullback; RoHS: Y; PinCount: 6; DigiKeyPartNumber: LP5952LC-1.3-ND; ComponentLink1Description: LP5952 Datasheet; ComponentLink1URL: http://www.national.com/ds/LP/LP5952.pdf; ComponentLink2Description: LP5952 Web Page; ComponentLink2URL: http://www.national.com/pf/LP/LP5952.html; ComponentLink3Description: LCA06B Package Page; ComponentLink3URL: http://www.national.com/packaging/folders/lca06b.html
footprint LCA06B (SON, 6-Leads, Body 2x2mm, Pitch 0.5mm, NSC Recommended)
pins: 1 VBATT (in), 2 GND (power), 3 IN (power), 4 OUT (power), 5 NC, 6 EN (in)

## LP5952LC-1.5
designator U?
350mA Dual Rail Linear Regulator; PartNumber: LP5952LC-1.5; Manufacturer: National Semiconductor; CompType: LDO IC; PackageTopMarking: XTT*L25; PowerWise: Y; Published: 4-Dec-2008; DatasheetVersion: Jun-2008; PackageVersion: revA, Oct-2006; PackageReference: LCA06B; Publisher: Altium Limited; PackageDescription: LLP, 2 x 2 x 0.6mm, 6 Lead, 0.5mm Pitch, No Pullback; RoHS: Y; PinCount: 6; DigiKeyPartNumber: LP5952LC-1.5-ND; ComponentLink1Description: LP5952 Datasheet; ComponentLink1URL: http://www.national.com/ds/LP/LP5952.pdf; ComponentLink2Description: LP5952 Web Page; ComponentLink2URL: http://www.national.com/pf/LP/LP5952.html; ComponentLink3Description: LCA06B Package Page; ComponentLink3URL: http://www.national.com/packaging/folders/lca06b.html
footprint LCA06B (SON, 6-Leads, Body 2x2mm, Pitch 0.5mm, NSC Recommended)
pins: 1 VBATT (in), 2 GND (power), 3 IN (power), 4 OUT (power), 5 NC, 6 EN (in)

## LP5952LC-1.8
designator U?
350mA Dual Rail Linear Regulator; PartNumber: LP5952LC-1.8; Manufacturer: National Semiconductor; CompType: LDO IC; PackageTopMarking: XTT*L29; PowerWise: Y; Published: 4-Dec-2008; DatasheetVersion: Jun-2008; PackageVersion: revA, Oct-2006; PackageReference: LCA06B; Publisher: Altium Limited; PackageDescription: LLP, 2 x 2 x 0.6mm, 6 Lead, 0.5mm Pitch, No Pullback; RoHS: Y; PinCount: 6; DigiKeyPartNumber: LP5952LC-1.8-ND; ComponentLink1Description: LP5952 Datasheet; ComponentLink1URL: http://www.national.com/ds/LP/LP5952.pdf; ComponentLink2Description: LP5952 Web Page; ComponentLink2URL: http://www.national.com/pf/LP/LP5952.html; ComponentLink3Description: LCA06B Package Page; ComponentLink3URL: http://www.national.com/packaging/folders/lca06b.html
footprint LCA06B (SON, 6-Leads, Body 2x2mm, Pitch 0.5mm, NSC Recommended)
pins: 1 VBATT (in), 2 GND (power), 3 IN (power), 4 OUT (power), 5 NC, 6 EN (in)

## LP5952TL-0.7
designator U?
350mA Dual Rail Linear Regulator; PartNumber: LP5952TL-0.7; Manufacturer: National Semiconductor; CompType: LDO IC; PackageTopMarking: XV*I 4; Published: 4-Dec-2008; DatasheetVersion: Jun-2008; PackageVersion: revC, Feb-2005; PackageReference: TLA05Z1A; Publisher: Altium Limited; PackageDescription: Thin Micro SMD, 5 Bump (Large), 0.5mm Pitch; RoHS: Y; PinCount: 5; DigiKeyPartNumber: LP5952TL-0.7CT-ND; ComponentLink1Description: LP5952 Datasheet; ComponentLink1URL: http://www.national.com/ds/LP/LP5952.pdf; ComponentLink2Description: LP5952 Web Page; ComponentLink2URL: http://www.national.com/pf/LP/LP5952.html; ComponentLink3Description: TLA05Z1A Package Page; ComponentLink3URL: http://www.national.com/packaging/folders/tla05z1a.html
footprint TLA05Z1A (Micro SMD, 5-Leads, Body 1.34x0.96mm, Pitch 0.5mm, NSC Recommended)
pins: A1 IN (power), A3 OUT (power), B2 GND (power), C1 VBATT (in), C3 EN (in)

## LP5952TL-1.0
designator U?
350mA Dual Rail Linear Regulator; PartNumber: LP5952TL-1.0; Manufacturer: National Semiconductor; CompType: LDO IC; PackageTopMarking: XV*I L; Published: 4-Dec-2008; DatasheetVersion: Jun-2008; PackageVersion: revC, Feb-2005; PackageReference: TLA05Z1A; Publisher: Altium Limited; PackageDescription: Thin Micro SMD, 5 Bump (Large), 0.5mm Pitch; RoHS: Y; PinCount: 5; ComponentLink1Description: LP5952 Datasheet; ComponentLink1URL: http://www.national.com/ds/LP/LP5952.pdf; ComponentLink2Description: LP5952 Web Page; ComponentLink2URL: http://www.national.com/pf/LP/LP5952.html; ComponentLink3Description: TLA05Z1A Package Page; ComponentLink3URL: http://www.national.com/packaging/folders/tla05z1a.html
footprint TLA05Z1A (Micro SMD, 5-Leads, Body 1.34x0.96mm, Pitch 0.5mm, NSC Recommended)
pins: A1 IN (power), A3 OUT (power), B2 GND (power), C1 VBATT (in), C3 EN (in)

## LP5952TL-1.2
designator U?
350mA Dual Rail Linear Regulator; PartNumber: LP5952TL-1.2; Manufacturer: National Semiconductor; CompType: LDO IC; PackageTopMarking: XV*I 7; Published: 4-Dec-2008; DatasheetVersion: Jun-2008; PackageVersion: revC, Feb-2005; PackageReference: TLA05Z1A; Publisher: Altium Limited; PackageDescription: Thin Micro SMD, 5 Bump (Large), 0.5mm Pitch; RoHS: Y; PinCount: 5; DigiKeyPartNumber: LP5952TL-1.2CT-ND; ComponentLink1Description: LP5952 Datasheet; ComponentLink1URL: http://www.national.com/ds/LP/LP5952.pdf; ComponentLink2Description: LP5952 Web Page; ComponentLink2URL: http://www.national.com/pf/LP/LP5952.html; ComponentLink3Description: TLA05Z1A Package Page; ComponentLink3URL: http://www.national.com/packaging/folders/tla05z1a.html
footprint TLA05Z1A (Micro SMD, 5-Leads, Body 1.34x0.96mm, Pitch 0.5mm, NSC Recommended)
pins: A1 IN (power), A3 OUT (power), B2 GND (power), C1 VBATT (in), C3 EN (in)

## LP5952TL-1.3
designator U?
350mA Dual Rail Linear Regulator; PartNumber: LP5952TL-1.3; Manufacturer: National Semiconductor; CompType: LDO IC; PackageTopMarking: XV*I U; PowerWise: Y; Published: 4-Dec-2008; DatasheetVersion: Jun-2008; PackageVersion: revC, Feb-2005; PackageReference: TLA05Z1A; Publisher: Altium Limited; PackageDescription: Thin Micro SMD, 5 Bump (Large), 0.5mm Pitch; RoHS: Y; PinCount: 5; DigiKeyPartNumber: LP5952TL-1.3CT-ND; ComponentLink1Description: LP5952 Datasheet; ComponentLink1URL: http://www.national.com/ds/LP/LP5952.pdf; ComponentLink2Description: LP5952 Web Page; ComponentLink2URL: http://www.national.com/pf/LP/LP5952.html; ComponentLink3Description: TLA05Z1A Package Page; ComponentLink3URL: http://www.national.com/packaging/folders/tla05z1a.html
footprint TLA05Z1A (Micro SMD, 5-Leads, Body 1.34x0.96mm, Pitch 0.5mm, NSC Recommended)
pins: A1 IN (power), A3 OUT (power), B2 GND (power), C1 VBATT (in), C3 EN (in)

## LP5952TL-1.4
designator U?
350mA Dual Rail Linear Regulator; PartNumber: LP5952TL-1.4; Manufacturer: National Semiconductor; CompType: LDO IC; PackageTopMarking: XV*I A; PowerWise: Y; Published: 4-Dec-2008; DatasheetVersion: Jun-2008; PackageVersion: revC, Feb-2005; PackageReference: TLA05Z1A; Publisher: Altium Limited; PackageDescription: Thin Micro SMD, 5 Bump (Large), 0.5mm Pitch; RoHS: Y; PinCount: 5; DigiKeyPartNumber: LP5952TL-1.4CT-ND; ComponentLink1Description: LP5952 Datasheet; ComponentLink1URL: http://www.national.com/ds/LP/LP5952.pdf; ComponentLink2Description: LP5952 Web Page; ComponentLink2URL: http://www.national.com/pf/LP/LP5952.html; ComponentLink3Description: TLA05Z1A Package Page; ComponentLink3URL: http://www.national.com/packaging/folders/tla05z1a.html
footprint TLA05Z1A (Micro SMD, 5-Leads, Body 1.34x0.96mm, Pitch 0.5mm, NSC Recommended)
pins: A1 IN (power), A3 OUT (power), B2 GND (power), C1 VBATT (in), C3 EN (in)

## LP5952TL-1.5
designator U?
350mA Dual Rail Linear Regulator; PartNumber: LP5952TL-1.5; Manufacturer: National Semiconductor; CompType: LDO IC; PackageTopMarking: XV*I T; PowerWise: Y; Published: 4-Dec-2008; DatasheetVersion: Jun-2008; PackageVersion: revC, Feb-2005; PackageReference: TLA05Z1A; Publisher: Altium Limited; PackageDescription: Thin Micro SMD, 5 Bump (Large), 0.5mm Pitch; RoHS: Y; PinCount: 5; DigiKeyPartNumber: LP5952TL-1.5CT-ND; ComponentLink1Description: LP5952 Datasheet; ComponentLink1URL: http://www.national.com/ds/LP/LP5952.pdf; ComponentLink2Description: LP5952 Web Page; ComponentLink2URL: http://www.national.com/pf/LP/LP5952.html; ComponentLink3Description: TLA05Z1A Package Page; ComponentLink3URL: http://www.national.com/packaging/folders/tla05z1a.html
footprint TLA05Z1A (Micro SMD, 5-Leads, Body 1.34x0.96mm, Pitch 0.5mm, NSC Recommended)
pins: A1 IN (power), A3 OUT (power), B2 GND (power), C1 VBATT (in), C3 EN (in)

## LP5952TL-1.6
designator U?
350mA Dual Rail Linear Regulator; PartNumber: LP5952TL-1.6; Manufacturer: National Semiconductor; CompType: LDO IC; PackageTopMarking: XV*I B; Published: 4-Dec-2008; DatasheetVersion: Jun-2008; PackageVersion: revC, Feb-2005; PackageReference: TLA05Z1A; Publisher: Altium Limited; PackageDescription: Thin Micro SMD, 5 Bump (Large), 0.5mm Pitch; RoHS: Y; PinCount: 5; DigiKeyPartNumber: LP5952TL-1.6CT-ND; ComponentLink1Description: LP5952 Datasheet; ComponentLink1URL: http://www.national.com/ds/LP/LP5952.pdf; ComponentLink2Description: LP5952 Web Page; ComponentLink2URL: http://www.national.com/pf/LP/LP5952.html; ComponentLink3Description: TLA05Z1A Package Page; ComponentLink3URL: http://www.national.com/packaging/folders/tla05z1a.html
footprint TLA05Z1A (Micro SMD, 5-Leads, Body 1.34x0.96mm, Pitch 0.5mm, NSC Recommended)
pins: A1 IN (power), A3 OUT (power), B2 GND (power), C1 VBATT (in), C3 EN (in)

## LP5952TL-1.8
designator U?
350mA Dual Rail Linear Regulator; PartNumber: LP5952TL-1.8; Manufacturer: National Semiconductor; CompType: LDO IC; PackageTopMarking: XV*I 8; Published: 4-Dec-2008; DatasheetVersion: Jun-2008; PackageVersion: revC, Feb-2005; PackageReference: TLA05Z1A; Publisher: Altium Limited; PackageDescription: Thin Micro SMD, 5 Bump (Large), 0.5mm Pitch; RoHS: Y; PinCount: 5; DigiKeyPartNumber: LP5952TL-1.8CT-ND; ComponentLink1Description: LP5952 Datasheet; ComponentLink1URL: http://www.national.com/ds/LP/LP5952.pdf; ComponentLink2Description: LP5952 Web Page; ComponentLink2URL: http://www.national.com/pf/LP/LP5952.html; ComponentLink3Description: TLA05Z1A Package Page; ComponentLink3URL: http://www.national.com/packaging/folders/tla05z1a.html
footprint TLA05Z1A (Micro SMD, 5-Leads, Body 1.34x0.96mm, Pitch 0.5mm, NSC Recommended)
pins: A1 IN (power), A3 OUT (power), B2 GND (power), C1 VBATT (in), C3 EN (in)

## LP5952TL-2.0
designator U?
350mA Dual Rail Linear Regulator; PartNumber: LP5952TL-2.0; Manufacturer: National Semiconductor; CompType: LDO IC; PackageTopMarking: XV*I 5; Published: 4-Dec-2008; DatasheetVersion: Jun-2008; PackageVersion: revC, Feb-2005; PackageReference: TLA05Z1A; Publisher: Altium Limited; PackageDescription: Thin Micro SMD, 5 Bump (Large), 0.5mm Pitch; RoHS: Y; PinCount: 5; DigiKeyPartNumber: LP5952TL-2.0CT-ND; ComponentLink1Description: LP5952 Datasheet; ComponentLink1URL: http://www.national.com/ds/LP/LP5952.pdf; ComponentLink2Description: LP5952 Web Page; ComponentLink2URL: http://www.national.com/pf/LP/LP5952.html; ComponentLink3Description: TLA05Z1A Package Page; ComponentLink3URL: http://www.national.com/packaging/folders/tla05z1a.html
footprint TLA05Z1A (Micro SMD, 5-Leads, Body 1.34x0.96mm, Pitch 0.5mm, NSC Recommended)
pins: A1 IN (power), A3 OUT (power), B2 GND (power), C1 VBATT (in), C3 EN (in)

## LP5990TM-1.2
designator U?
Micropower 200mA Low Dropout Voltage Regulator; PartNumber: LP5990TM-1.2; Manufacturer: National Semiconductor; CompType: LDO IC; PackageTopMarking: X*I; PowerWise: N; Published: 4-May-2009; DatasheetVersion: Dec-2007; PackageVersion: revA, 2007; PackageReference: TMD04CEA; Publisher: Altium Limited; PackageDescription: Thin Micro SMD, 4 Bump, 0.4mm Pitch; RoHS: Y; PinCount: 4; ComponentLink1Description: LP5990 Datasheet; ComponentLink1URL: http://www.national.com/ds/LP/LP5990.pdf; ComponentLink2Description: LP5990 Web Page; ComponentLink2URL: http://www.national.com/mpf/LP/LP5990.html
footprint TMD04CEA (Micro SMD, 4-Leads, Body 0.92x0.87mm, Pitch 0.4mm, NSC Recommended)
pins: A1 GND (power), A2 EN (in), B1 OUT (power), B2 IN (power)

## LP5990TM-1.3
designator U?
Micropower 200mA Low Dropout Voltage Regulator; PartNumber: LP5990TM-1.3; Manufacturer: National Semiconductor; CompType: LDO IC; PackageTopMarking: X*I; PowerWise: N; Published: 4-May-2009; DatasheetVersion: Dec-2007; PackageVersion: revA, 2007; PackageReference: TMD04CEA; Publisher: Altium Limited; PackageDescription: Thin Micro SMD, 4 Bump, 0.4mm Pitch; RoHS: Y; PinCount: 4; ComponentLink1Description: LP5990 Datasheet; ComponentLink1URL: http://www.national.com/ds/LP/LP5990.pdf; ComponentLink2Description: LP5990 Web Page; ComponentLink2URL: http://www.national.com/mpf/LP/LP5990.html
footprint TMD04CEA (Micro SMD, 4-Leads, Body 0.92x0.87mm, Pitch 0.4mm, NSC Recommended)
pins: A1 GND (power), A2 EN (in), B1 OUT (power), B2 IN (power)

## LP5990TM-1.8
designator U?
Micropower 200mA Low Dropout Voltage Regulator; PartNumber: LP5990TM-1.8; Manufacturer: National Semiconductor; CompType: LDO IC; PackageTopMarking: X*I; PowerWise: N; Published: 4-May-2009; DatasheetVersion: Dec-2007; PackageVersion: revA, 2007; PackageReference: TMD04CEA; Publisher: Altium Limited; PackageDescription: Thin Micro SMD, 4 Bump, 0.4mm Pitch; RoHS: Y; PinCount: 4; DigiKeyPartNumber: LP5990TM-1.8CT-ND; ComponentLink1Description: LP5990 Datasheet; ComponentLink1URL: http://www.national.com/ds/LP/LP5990.pdf; ComponentLink2Description: LP5990 Web Page; ComponentLink2URL: http://www.national.com/mpf/LP/LP5990.html
footprint TMD04CEA (Micro SMD, 4-Leads, Body 0.92x0.87mm, Pitch 0.4mm, NSC Recommended)
pins: A1 GND (power), A2 EN (in), B1 OUT (power), B2 IN (power)

## LP5990TM-2.8
designator U?
Micropower 200mA Low Dropout Voltage Regulator; PartNumber: LP5990TM-2.8; Manufacturer: National Semiconductor; CompType: LDO IC; PackageTopMarking: X*I; PowerWise: N; Published: 4-May-2009; DatasheetVersion: Dec-2007; PackageVersion: revA, 2007; PackageReference: TMD04CEA; Publisher: Altium Limited; PackageDescription: Thin Micro SMD, 4 Bump, 0.4mm Pitch; RoHS: Y; PinCount: 4; DigiKeyPartNumber: LP5990TM-2.8CT-ND; ComponentLink1Description: LP5990 Datasheet; ComponentLink1URL: http://www.national.com/ds/LP/LP5990.pdf; ComponentLink2Description: LP5990 Web Page; ComponentLink2URL: http://www.national.com/mpf/LP/LP5990.html
footprint TMD04CEA (Micro SMD, 4-Leads, Body 0.92x0.87mm, Pitch 0.4mm, NSC Recommended)
pins: A1 GND (power), A2 EN (in), B1 OUT (power), B2 IN (power)

## LP5990TM-3.0
designator U?
Micropower 200mA Low Dropout Voltage Regulator; PartNumber: LP5990TM-3.0; Manufacturer: National Semiconductor; CompType: LDO IC; PackageTopMarking: X*I; PowerWise: N; Published: 4-May-2009; DatasheetVersion: Dec-2007; PackageVersion: revA, 2007; PackageReference: TMD04CEA; Publisher: Altium Limited; PackageDescription: Thin Micro SMD, 4 Bump, 0.4mm Pitch; RoHS: Y; PinCount: 4; ComponentLink1Description: LP5990 Datasheet; ComponentLink1URL: http://www.national.com/ds/LP/LP5990.pdf; ComponentLink2Description: LP5990 Web Page; ComponentLink2URL: http://www.national.com/mpf/LP/LP5990.html
footprint TMD04CEA (Micro SMD, 4-Leads, Body 0.92x0.87mm, Pitch 0.4mm, NSC Recommended)
pins: A1 GND (power), A2 EN (in), B1 OUT (power), B2 IN (power)

## LP5990TM-3.3
designator U?
Micropower 200mA Low Dropout Voltage Regulator; PartNumber: LP5990TM-3.3; Manufacturer: National Semiconductor; CompType: LDO IC; PackageTopMarking: X*I; PowerWise: N; Published: 4-May-2009; DatasheetVersion: Dec-2007; PackageVersion: revA, 2007; PackageReference: TMD04CEA; Publisher: Altium Limited; PackageDescription: Thin Micro SMD, 4 Bump, 0.4mm Pitch; RoHS: Y; PinCount: 4; DigiKeyPartNumber: LP5990TM-3.3CT-ND; ComponentLink1Description: LP5990 Datasheet; ComponentLink1URL: http://www.national.com/ds/LP/LP5990.pdf; ComponentLink2Description: LP5990 Web Page; ComponentLink2URL: http://www.national.com/mpf/LP/LP5990.html
footprint TMD04CEA (Micro SMD, 4-Leads, Body 0.92x0.87mm, Pitch 0.4mm, NSC Recommended)
pins: A1 GND (power), A2 EN (in), B1 OUT (power), B2 IN (power)

## LP5990TM-3.6
designator U?
Micropower 200mA Low Dropout Voltage Regulator; PartNumber: LP5990TM-3.6; Manufacturer: National Semiconductor; CompType: LDO IC; PackageTopMarking: X*I; PowerWise: N; Published: 4-May-2009; DatasheetVersion: Dec-2007; PackageVersion: revA, 2007; PackageReference: TMD04CEA; Publisher: Altium Limited; PackageDescription: Thin Micro SMD, 4 Bump, 0.4mm Pitch; RoHS: Y; PinCount: 4; DigiKeyPartNumber: LP5990TM-3.6-ND; ComponentLink1Description: LP5990 Datasheet; ComponentLink1URL: http://www.national.com/ds/LP/LP5990.pdf; ComponentLink2Description: LP5990 Web Page; ComponentLink2URL: http://www.national.com/mpf/LP/LP5990.html
footprint TMD04CEA (Micro SMD, 4-Leads, Body 0.92x0.87mm, Pitch 0.4mm, NSC Recommended)
pins: A1 GND (power), A2 EN (in), B1 OUT (power), B2 IN (power)

## LP5990TMX-1.2
designator U?
Micropower 200mA Low Dropout Voltage Regulator; PartNumber: LP5990TMX-1.2; Manufacturer: National Semiconductor; CompType: LDO IC; PackageTopMarking: X*I; PowerWise: N; Published: 4-May-2009; DatasheetVersion: Dec-2007; PackageVersion: revA, 2007; PackageReference: TMD04CEA; Publisher: Altium Limited; PackageDescription: Thin Micro SMD, 4 Bump, 0.4mm Pitch; RoHS: Y; PinCount: 4; ComponentLink1Description: LP5990 Datasheet; ComponentLink1URL: http://www.national.com/ds/LP/LP5990.pdf; ComponentLink2Description: LP5990 Web Page; ComponentLink2URL: http://www.national.com/mpf/LP/LP5990.html
footprint TMD04CEA (Micro SMD, 4-Leads, Body 0.92x0.87mm, Pitch 0.4mm, NSC Recommended)
pins: A1 GND (power), A2 EN (in), B1 OUT (power), B2 IN (power)

## LP5990TMX-1.3
designator U?
Micropower 200mA Low Dropout Voltage Regulator; PartNumber: LP5990TMX-1.3; Manufacturer: National Semiconductor; CompType: LDO IC; PackageTopMarking: X*I; PowerWise: N; Published: 4-May-2009; DatasheetVersion: Dec-2007; PackageVersion: revA, 2007; PackageReference: TMD04CEA; Publisher: Altium Limited; PackageDescription: Thin Micro SMD, 4 Bump, 0.4mm Pitch; RoHS: Y; PinCount: 4; ComponentLink1Description: LP5990 Datasheet; ComponentLink1URL: http://www.national.com/ds/LP/LP5990.pdf; ComponentLink2Description: LP5990 Web Page; ComponentLink2URL: http://www.national.com/mpf/LP/LP5990.html
footprint TMD04CEA (Micro SMD, 4-Leads, Body 0.92x0.87mm, Pitch 0.4mm, NSC Recommended)
pins: A1 GND (power), A2 EN (in), B1 OUT (power), B2 IN (power)

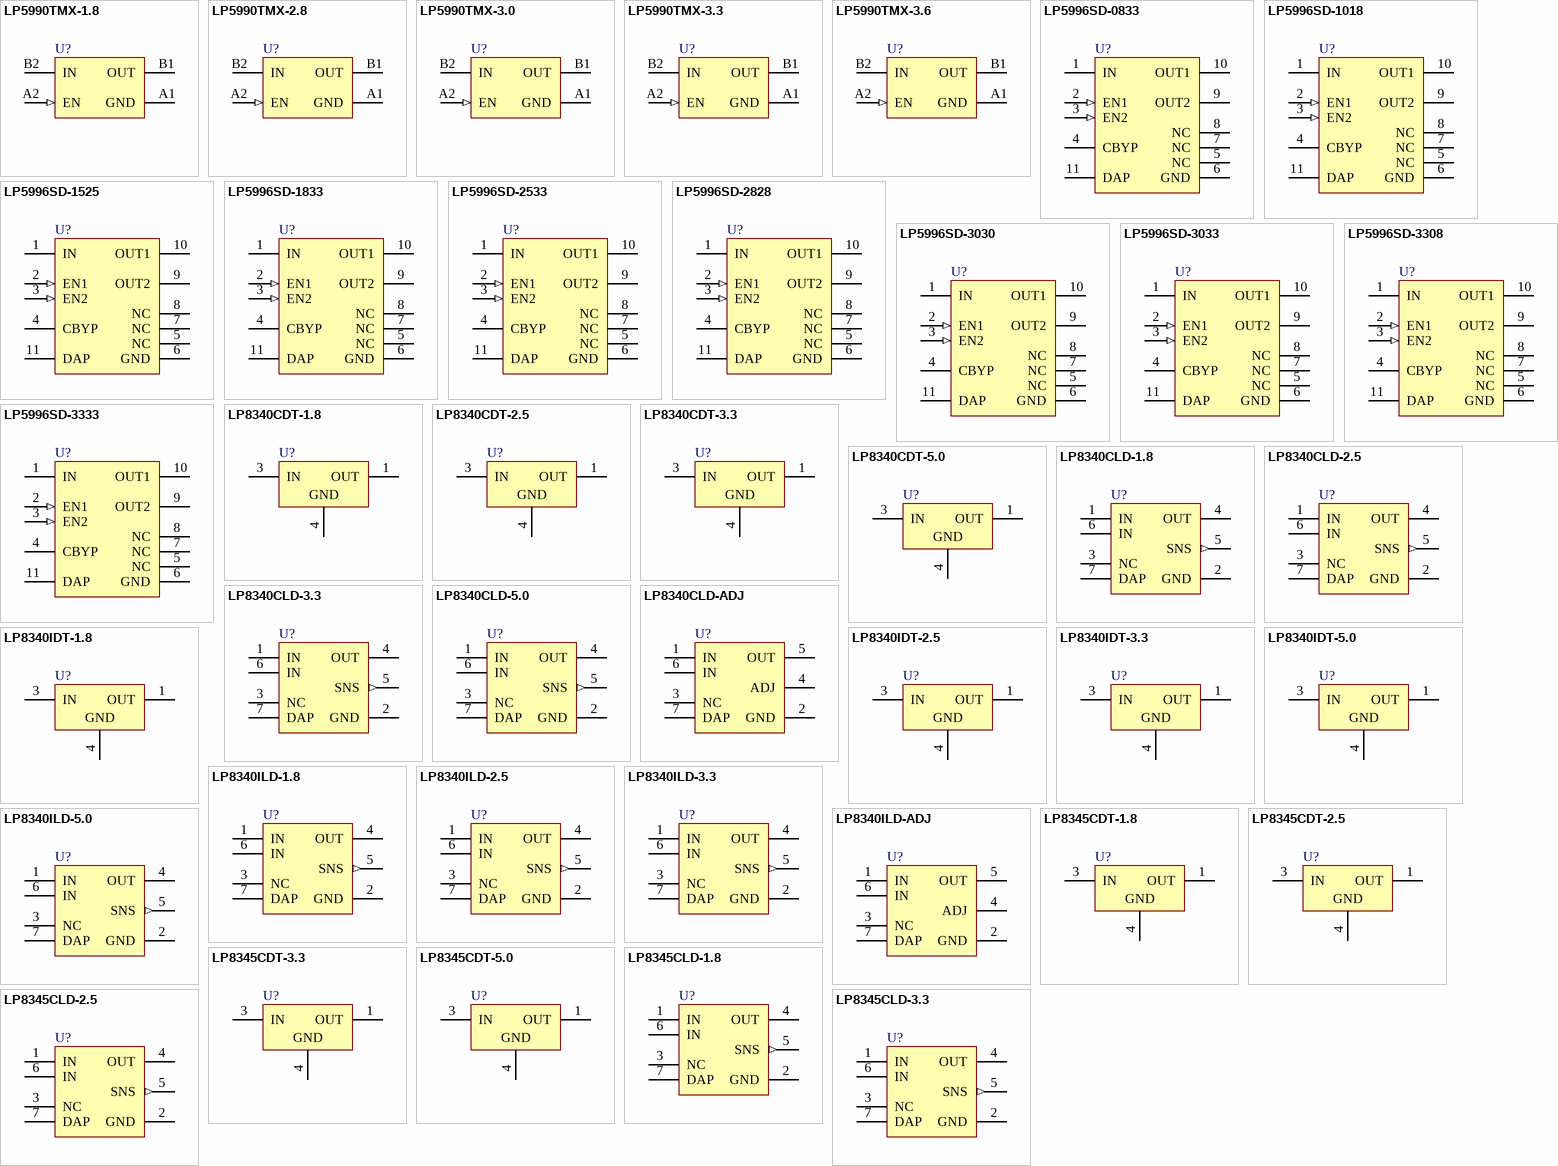
[diagram p27: symbols LP5990TMX-1.8 to LP8345CLD-3.3]

## LP5990TMX-1.8
designator U?
Micropower 200mA Low Dropout Voltage Regulator; PartNumber: LP5990TMX-1.8; Manufacturer: National Semiconductor; CompType: LDO IC; PackageTopMarking: X*I; PowerWise: N; Published: 4-May-2009; DatasheetVersion: Dec-2007; PackageVersion: revA, 2007; PackageReference: TMD04CEA; Publisher: Altium Limited; PackageDescription: Thin Micro SMD, 4 Bump, 0.4mm Pitch; RoHS: Y; PinCount: 4; DigiKeyPartNumber: LP5990TMX-1.8-ND; ComponentLink1Description: LP5990 Datasheet; ComponentLink1URL: http://www.national.com/ds/LP/LP5990.pdf; ComponentLink2Description: LP5990 Web Page; ComponentLink2URL: http://www.national.com/mpf/LP/LP5990.html
footprint TMD04CEA (Micro SMD, 4-Leads, Body 0.92x0.87mm, Pitch 0.4mm, NSC Recommended)
pins: A1 GND (power), A2 EN (in), B1 OUT (power), B2 IN (power)

## LP5990TMX-2.8
designator U?
Micropower 200mA Low Dropout Voltage Regulator; PartNumber: LP5990TMX-2.8; Manufacturer: National Semiconductor; CompType: LDO IC; PackageTopMarking: X*I; PowerWise: N; Published: 4-May-2009; DatasheetVersion: Dec-2007; PackageVersion: revA, 2007; PackageReference: TMD04CEA; Publisher: Altium Limited; PackageDescription: Thin Micro SMD, 4 Bump, 0.4mm Pitch; RoHS: Y; PinCount: 4; ComponentLink1Description: LP5990 Datasheet; ComponentLink1URL: http://www.national.com/ds/LP/LP5990.pdf; ComponentLink2Description: LP5990 Web Page; ComponentLink2URL: http://www.national.com/mpf/LP/LP5990.html
footprint TMD04CEA (Micro SMD, 4-Leads, Body 0.92x0.87mm, Pitch 0.4mm, NSC Recommended)
pins: A1 GND (power), A2 EN (in), B1 OUT (power), B2 IN (power)